# Altium integrated library TI Microcontroller MSP430 16-bit Ultra-Low Power.IntLib: 1463 symbols (part 43 of 130)
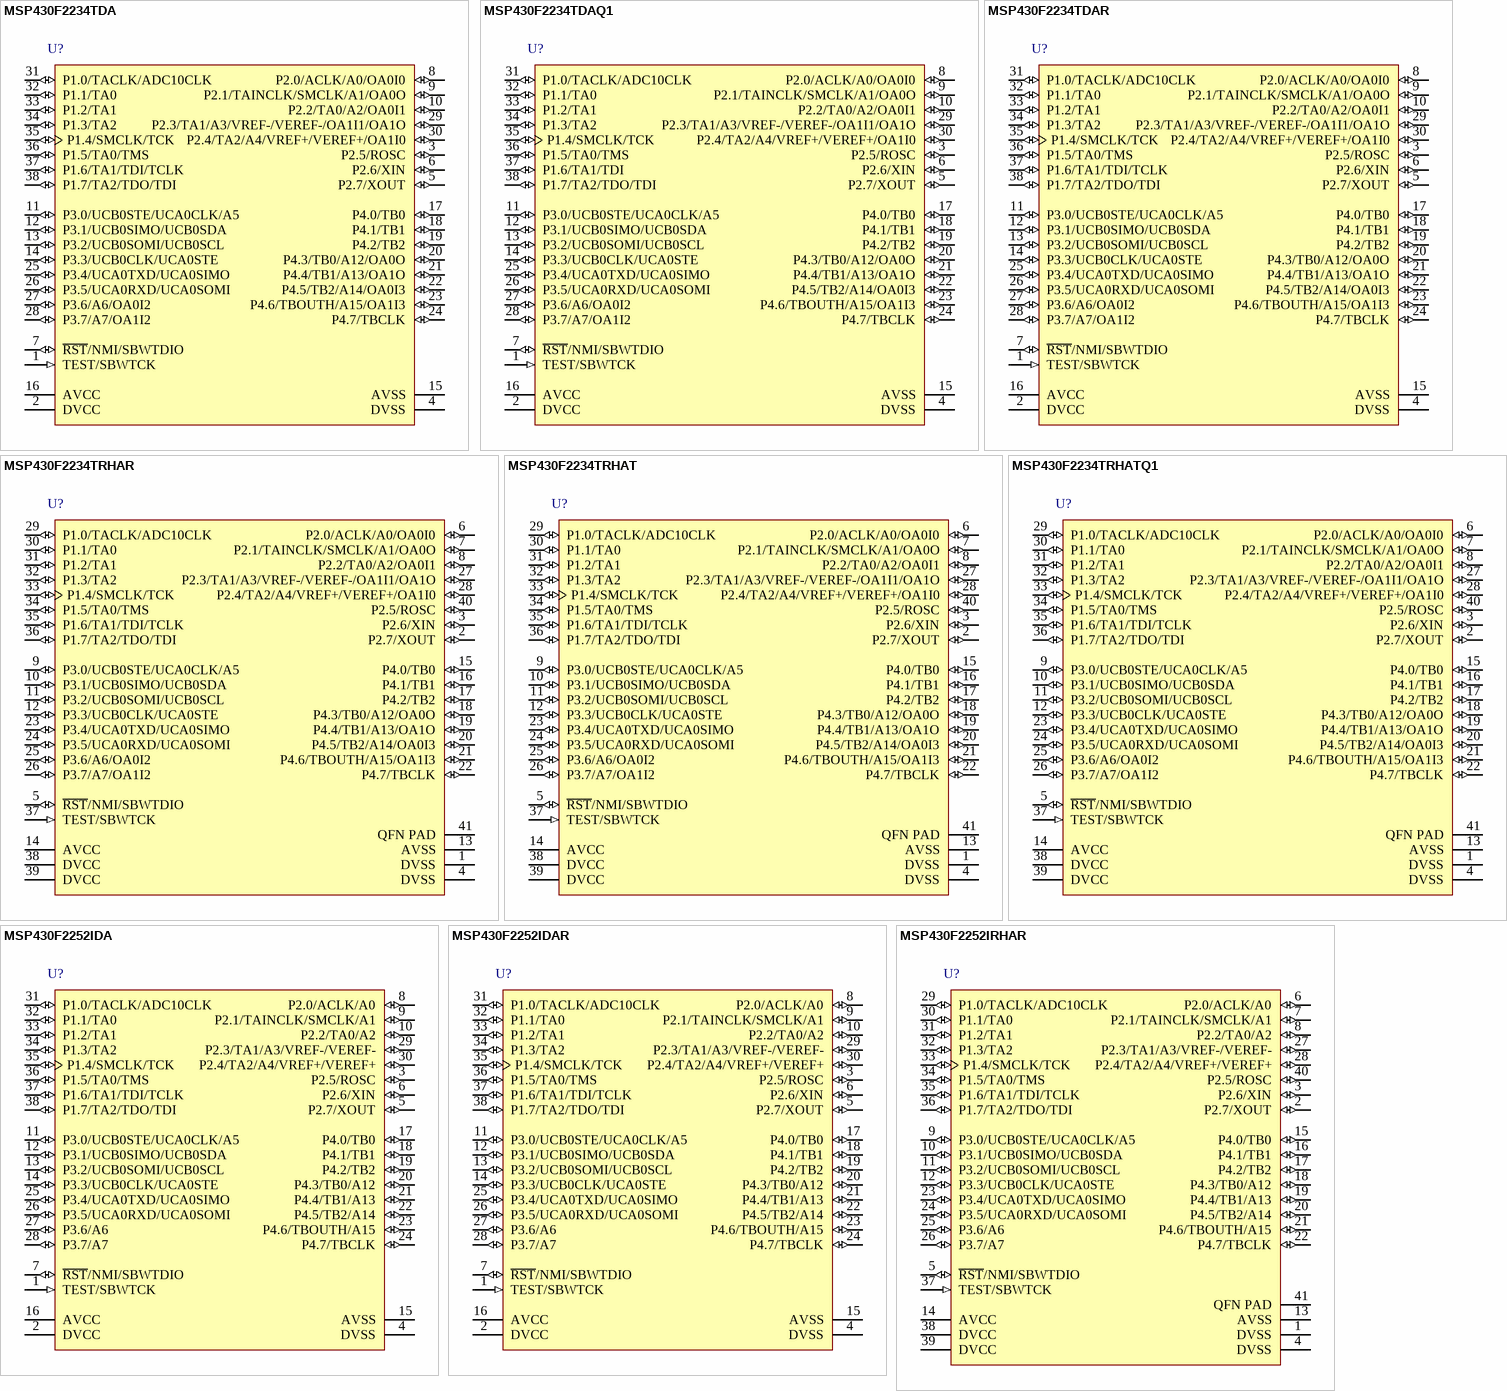
[diagram p258: symbols MSP430F2234TDA to MSP430F2252IRHAR]

## MSP430F2252IDAR
designator U?
16 MHz Mixed Signal Microcontroller with 16 KB Flash, 512 B SRAM and 32 GPIOs, -40 to 85 degC, 38-pin SOP (DA), Green (RoHS & no Sb/Br); Manufacturer: Texas Instruments; PartNumber: MSP430F2252IDAR; ADC: 10-bit SAR; ADC Channels: 12; Brown Out Reset: Yes; Flash(KB): 16; GPIO: 32; SRAM(B): 512; SubFamily: 2 Series, Extended Temp; Timers - 16-bit: 2; USCI_A (UART/LIN/IrDA/SPI): 1; DatasheetVersion: SLAS504G; PackageVersion: 4040066/F; PackageReference: DA38; PackageDescription: 38-Pin Plastic Small-Outline Package, Body 6.10 x 12.50 mm, Pitch 0.65 mm; Supplier 1: Digi-Key; Supplier Part Number 1: 296-26206-5-ND; Supplier 2: Farnell; Supplier Part Number 2: 1649421; Supplier 3: Mouser; Supplier Part Number 3: 595-MSP430F2252IDA; Eco-Plan: Green (RoHS & no Sb/Br); Frequency(MHz): 16; USCI_B (I2C & SPI): 1; Watchdog: Yes; Mounting Technology: Surface Mount; Code_JEDEC: MO-153; ComponentLink1Description: Manufacturer URL; ComponentLink1URL: http://www.ti.com/; ComponentLink2Description: Datasheet; ComponentLink2URL: http://www.ti.com/general/docs/lit/getliterature.tsp?genericPartNumber=MSP430F2252&fileType=pdf; ComponentLink3Description: Package Specification; ComponentLink3URL: http://www.ti.com/lit/ml/mtss002e/mtss002e.pdf
footprint TI-DA38_N (SOP, 38-Leads, Body 12.5x6.1mm, Pitch 0.65mm, IPC Medium Density)
pins: 1 TEST/SBWTCK (in), 2 DVCC (power) "Digital supply voltage", 3 P2.5/ROSC (io), 4 DVSS (power) "Digital ground reference", 5 P2.7/XOUT (io), 6 P2.6/XIN (io), 7 ~{RST}/NMI/SBWTDIO (io), 8 P2.0/ACLK/A0 (io), 9 P2.1/TAINCLK/SMCLK/A1 (io), 10 P2.2/TA0/A2 (io), 11 P3.0/UCB0STE/UCA0CLK/A5 (io), 12 P3.1/UCB0SIMO/UCB0SDA (io), 13 P3.2/UCB0SOMI/UCB0SCL (io), 14 P3.3/UCB0CLK/UCA0STE (io), 15 AVSS (power) "Analog ground reference", 16 AVCC (power) "Analog supply voltage", 17 P4.0/TB0 (io), 18 P4.1/TB1 (io), 19 P4.2/TB2 (io), 20 P4.3/TB0/A12 (io), 21 P4.4/TB1/A13 (io), 22 P4.5/TB2/A14 (io), 23 P4.6/TBOUTH/A15 (io), 24 P4.7/TBCLK (io), 25 P3.4/UCA0TXD/UCA0SIMO (io), 26 P3.5/UCA0RXD/UCA0SOMI (io), 27 P3.6/A6 (io), 28 P3.7/A7 (io), 29 P2.3/TA1/A3/VREF-/VEREF- (io), 30 P2.4/TA2/A4/VREF+/VEREF+ (io), 31 P1.0/TACLK/ADC10CLK (io), 32 P1.1/TA0 (io), 33 P1.2/TA1 (io), 34 P1.3/TA2 (io), 35 P1.4/SMCLK/TCK (io), 36 P1.5/TA0/TMS (io), 37 P1.6/TA1/TDI/TCLK (io), 38 P1.7/TA2/TDO/TDI (io)

## MSP430F2252IRHAR
designator U?
16 MHz Mixed Signal Microcontroller with 16 KB Flash, 512 B SRAM and 32 GPIOs, -40 to 85 degC, 40-pin QFN (RHA), Green (RoHS & no Sb/Br); Manufacturer: Texas Instruments; PartNumber: MSP430F2252IRHAR; ADC: 10-bit SAR; ADC Channels: 12; Brown Out Reset: Yes; Flash(KB): 16; GPIO: 32; SRAM(B): 512; SubFamily: 2 Series, Extended Temp; Timers - 16-bit: 2; USCI_A (UART/LIN/IrDA/SPI): 1; DatasheetVersion: SLAS504G; PackageVersion: 4204276/E; PackageReference: RHA40-4150X4150TP; PackageDescription: 40-Pin Plastic Flat Pack, Body 6 x 6 mm, Pitch 0.5 mm; Supplier 1: Digi-Key; Supplier Part Number 1: 296-21450-2-ND; Supplier 2: Digi-Key; Supplier Part Number 2: 296-21450-1-ND; Supplier 3: Digi-Key; Supplier Part Number 3: 296-21450-6-ND; Supplier 4: Newark; Supplier Part Number 4: 28M6329; Supplier 5: Mouser; Supplier Part Number 5: 595-MSP430F2252IDAR; Eco-Plan: Green (RoHS & no Sb/Br); Frequency(MHz): 16; USCI_B (I2C & SPI): 1; Watchdog: Yes; Mounting Technology: Surface Mount; Code_JEDEC: MO-220; ComponentLink1Description: Manufacturer URL; ComponentLink1URL: http://www.ti.com/; ComponentLink2Description: Datasheet; ComponentLink2URL: http://www.ti.com/general/docs/lit/getliterature.tsp?genericPartNumber=MSP430F2252&fileType=pdf; ComponentLink3Description: Package Specification; ComponentLink3URL: http://www.ti.com/litv/pdf/mpqf135c
footprint TI-RHA40-4150X4150TP_N (QFN, 40-Leads, Body 6x6mm, Pitch 0.5mm, Thermal Pad 4.15x4.15mm, IPC Medium Density)
pins: 1 DVSS (power) "Digital ground reference", 2 P2.7/XOUT (io), 3 P2.6/XIN (io), 4 DVSS (power) "Digital ground reference", 5 ~{RST}/NMI/SBWTDIO (io), 6 P2.0/ACLK/A0 (io), 7 P2.1/TAINCLK/SMCLK/A1 (io), 8 P2.2/TA0/A2 (io), 9 P3.0/UCB0STE/UCA0CLK/A5 (io), 10 P3.1/UCB0SIMO/UCB0SDA (io), 11 P3.2/UCB0SOMI/UCB0SCL (io), 12 P3.3/UCB0CLK/UCA0STE (io), 13 AVSS (power) "Analog ground reference", 14 AVCC (power) "Analog supply voltage", 15 P4.0/TB0 (io), 16 P4.1/TB1 (io), 17 P4.2/TB2 (io), 18 P4.3/TB0/A12 (io), 19 P4.4/TB1/A13 (io), 20 P4.5/TB2/A14 (io), 21 P4.6/TBOUTH/A15 (io), 22 P4.7/TBCLK (io), 23 P3.4/UCA0TXD/UCA0SIMO (io), 24 P3.5/UCA0RXD/UCA0SOMI (io), 25 P3.6/A6 (io), 26 P3.7/A7 (io), 27 P2.3/TA1/A3/VREF-/VEREF- (io), 28 P2.4/TA2/A4/VREF+/VEREF+ (io), 29 P1.0/TACLK/ADC10CLK (io), 30 P1.1/TA0 (io), 31 P1.2/TA1 (io), 32 P1.3/TA2 (io), 33 P1.4/SMCLK/TCK (io), 34 P1.5/TA0/TMS (io), 35 P1.6/TA1/TDI/TCLK (io), 36 P1.7/TA2/TDO/TDI (io), 37 TEST/SBWTCK (in), 38 DVCC (power) "Digital supply voltage", 39 DVCC (power) "Digital supply voltage", 40 P2.5/ROSC (io), 41 QFN PAD (power) "QFN package pad; connection to DVSS recommended."

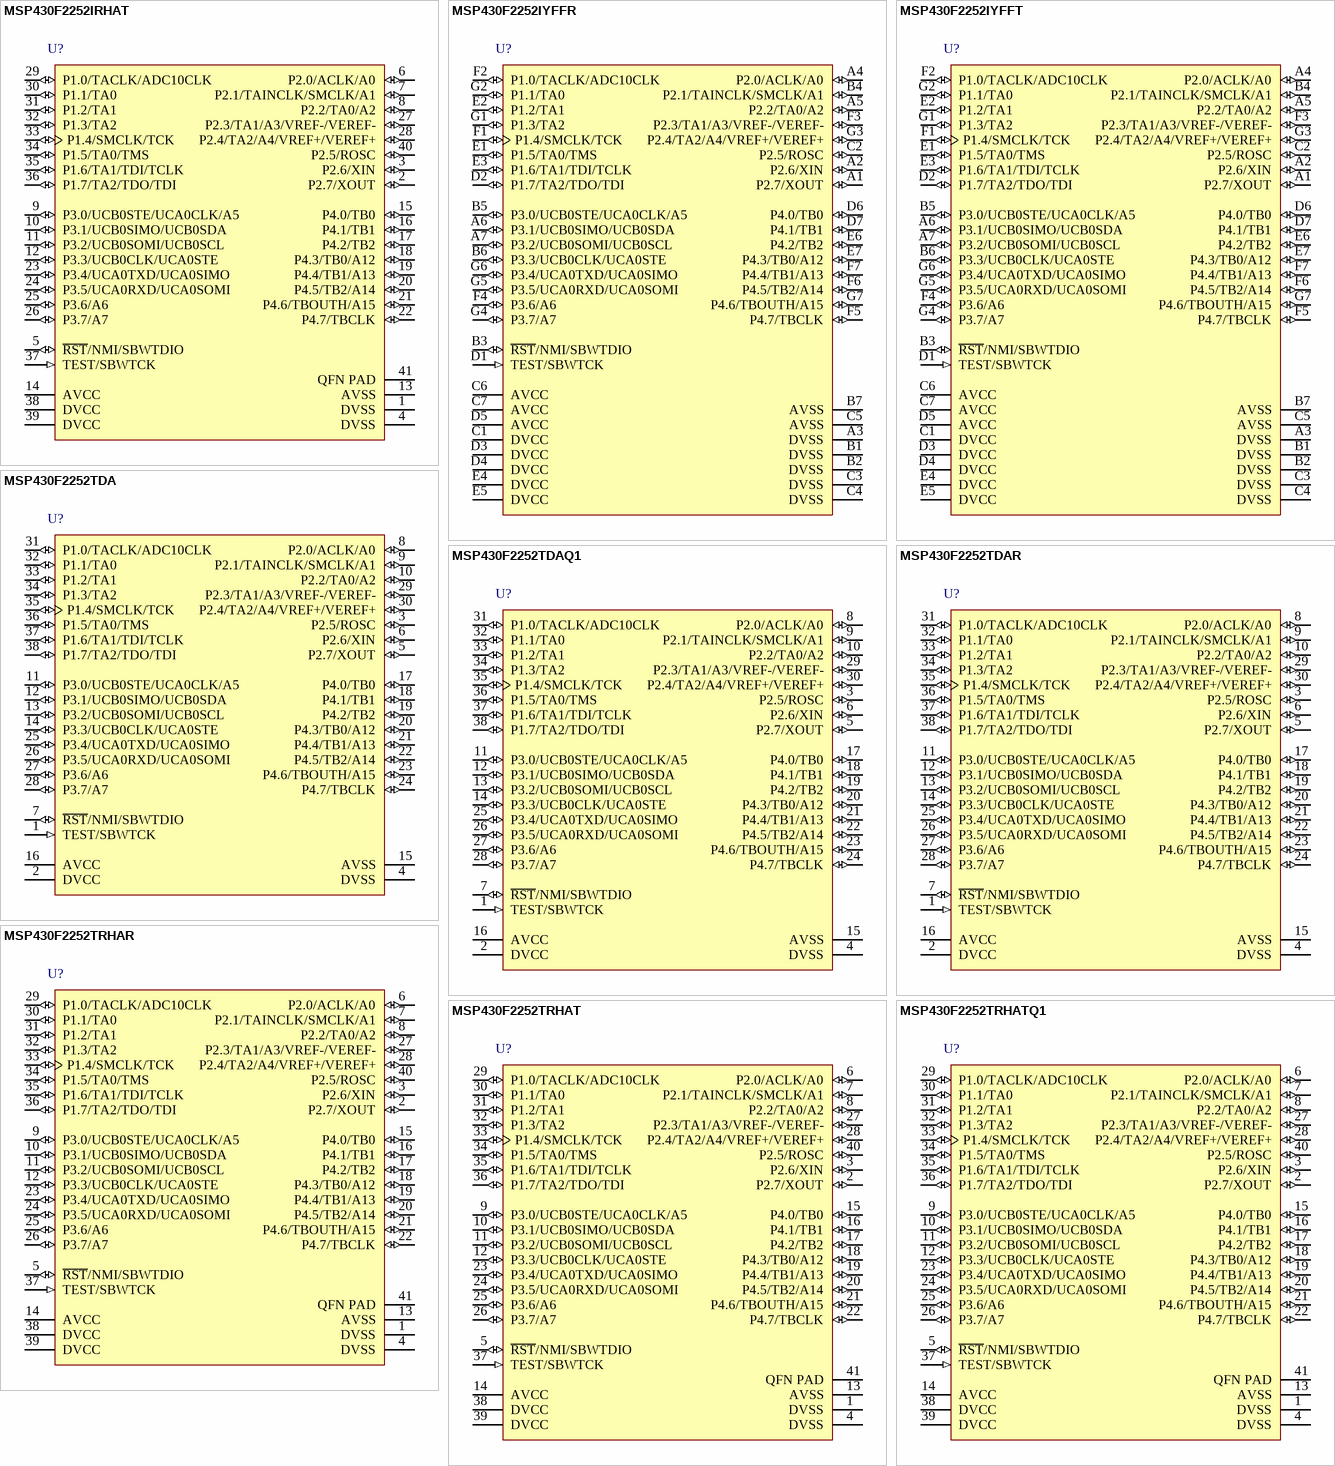
[diagram p62: symbols MSP430F2252IRHAT to MSP430F2252TRHATQ1]

## MSP430F2252IRHAT
designator U?
16 MHz Mixed Signal Microcontroller with 16 KB Flash, 512 B SRAM and 32 GPIOs, -40 to 85 degC, 40-pin QFN (RHA), Green (RoHS & no Sb/Br); Manufacturer: Texas Instruments; PartNumber: MSP430F2252IRHAT; ADC: 10-bit SAR; ADC Channels: 12; Brown Out Reset: Yes; Flash(KB): 16; GPIO: 32; SRAM(B): 512; SubFamily: 2 Series, Extended Temp; Timers - 16-bit: 2; USCI_A (UART/LIN/IrDA/SPI): 1; DatasheetVersion: SLAS504G; PackageVersion: 4204276/E; PackageReference: RHA40-4150X4150TP; PackageDescription: 40-Pin Plastic Flat Pack, Body 6 x 6 mm, Pitch 0.5 mm; Supplier 1: Digi-Key; Supplier Part Number 1: MSP430F2252IRHAR-ND; Supplier 2: Newark; Supplier Part Number 2: 28M6330; Supplier 3: Mouser; Supplier Part Number 3: 595-MSP430F2252IRHAR; Eco-Plan: Green (RoHS & no Sb/Br); Frequency(MHz): 16; USCI_B (I2C & SPI): 1; Watchdog: Yes; Mounting Technology: Surface Mount; Code_JEDEC: MO-220; ComponentLink1Description: Manufacturer URL; ComponentLink1URL: http://www.ti.com/; ComponentLink2Description: Datasheet; ComponentLink2URL: http://www.ti.com/general/docs/lit/getliterature.tsp?genericPartNumber=MSP430F2252&fileType=pdf; ComponentLink3Description: Package Specification; ComponentLink3URL: http://www.ti.com/litv/pdf/mpqf135c
footprint TI-RHA40-4150X4150TP_N (QFN, 40-Leads, Body 6x6mm, Pitch 0.5mm, Thermal Pad 4.15x4.15mm, IPC Medium Density)
pins: 1 DVSS (power) "Digital ground reference", 2 P2.7/XOUT (io), 3 P2.6/XIN (io), 4 DVSS (power) "Digital ground reference", 5 ~{RST}/NMI/SBWTDIO (io), 6 P2.0/ACLK/A0 (io), 7 P2.1/TAINCLK/SMCLK/A1 (io), 8 P2.2/TA0/A2 (io), 9 P3.0/UCB0STE/UCA0CLK/A5 (io), 10 P3.1/UCB0SIMO/UCB0SDA (io), 11 P3.2/UCB0SOMI/UCB0SCL (io), 12 P3.3/UCB0CLK/UCA0STE (io), 13 AVSS (power) "Analog ground reference", 14 AVCC (power) "Analog supply voltage", 15 P4.0/TB0 (io), 16 P4.1/TB1 (io), 17 P4.2/TB2 (io), 18 P4.3/TB0/A12 (io), 19 P4.4/TB1/A13 (io), 20 P4.5/TB2/A14 (io), 21 P4.6/TBOUTH/A15 (io), 22 P4.7/TBCLK (io), 23 P3.4/UCA0TXD/UCA0SIMO (io), 24 P3.5/UCA0RXD/UCA0SOMI (io), 25 P3.6/A6 (io), 26 P3.7/A7 (io), 27 P2.3/TA1/A3/VREF-/VEREF- (io), 28 P2.4/TA2/A4/VREF+/VEREF+ (io), 29 P1.0/TACLK/ADC10CLK (io), 30 P1.1/TA0 (io), 31 P1.2/TA1 (io), 32 P1.3/TA2 (io), 33 P1.4/SMCLK/TCK (io), 34 P1.5/TA0/TMS (io), 35 P1.6/TA1/TDI/TCLK (io), 36 P1.7/TA2/TDO/TDI (io), 37 TEST/SBWTCK (in), 38 DVCC (power) "Digital supply voltage", 39 DVCC (power) "Digital supply voltage", 40 P2.5/ROSC (io), 41 QFN PAD (power) "QFN package pad; connection to DVSS recommended."

## MSP430F2252IYFFR
designator U?
16 MHz Mixed Signal Microcontroller with 16 KB Flash, 512 B SRAM and 32 GPIOs, -40 to 85 degC, 49-Pin BGA (YFF), Green (RoHS & no Sb/Br); Manufacturer: Texas Instruments; PartNumber: MSP430F2252IYFFR; ADC: 10-bit SAR; ADC Channels: 12; Brown Out Reset: Yes; Flash(KB): 16; GPIO: 32; SRAM(B): 512; SubFamily: 2 Series, Extended Temp; Timers - 16-bit: 2; USCI_A (UART/LIN/IrDA/SPI): 1; DatasheetVersion: SLAS504G; PackageVersion: 4207625-16/AJ; PackageReference: YFF49; PackageDescription: 49-Ball Silicon Grid Array, Body 3.33 x 3.49 mm, Pitch 0.4 mm; Supplier 1: Digi-Key; Supplier Part Number 1: 296-21451-2-ND; Supplier 2: Digi-Key; Supplier Part Number 2: 296-21451-1-ND; Supplier 3: Digi-Key; Supplier Part Number 3: 296-21451-6-ND; Supplier 4: Farnell; Supplier Part Number 4: 1753294; Supplier 5: Newark; Supplier Part Number 5: 93R5550; Supplier 6: Newark; Supplier Part Number 6: 28M6331; Supplier 7: Mouser; Supplier Part Number 7: 595-MSP430F2252IRHAT; Eco-Plan: Green (RoHS & no Sb/Br); Frequency(MHz): 16; USCI_B (I2C & SPI): 1; Watchdog: Yes; Mounting Technology: Surface Mount; ComponentLink1Description: Manufacturer URL; ComponentLink1URL: http://www.ti.com/; ComponentLink2Description: Datasheet; ComponentLink2URL: http://www.ti.com/general/docs/lit/getliterature.tsp?genericPartNumber=MSP430F2252&fileType=pdf; ComponentLink3Description: Package Specification; ComponentLink3URL: http://www.ti.com/lit/ds/symlink/msp430f2232.pdf
footprint TI-YFF49-3330X3490DE (BGA, 49-Balls, Body 3.49x3.33mm, Pitch 0.4mm)
pins: A1 P2.7/XOUT (io), A2 P2.6/XIN (io), A3 DVSS (power) "Digital ground reference", A4 P2.0/ACLK/A0 (io), A5 P2.2/TA0/A2 (io), A6 P3.1/UCB0SIMO/UCB0SDA (io), A7 P3.2/UCB0SOMI/UCB0SCL (io), B1 DVSS (power) "Digital ground reference", B2 DVSS (power) "Digital ground reference", B3 ~{RST}/NMI/SBWTDIO (io), B4 P2.1/TAINCLK/SMCLK/A1 (io), B5 P3.0/UCB0STE/UCA0CLK/A5 (io), B6 P3.3/UCB0CLK/UCA0STE (io), B7 AVSS (power) "Analog ground reference", C1 DVCC (power) "Digital supply voltage", C2 P2.5/ROSC (io), C3 DVSS (power) "Digital ground reference", C4 DVSS (power) "Digital ground reference", C5 AVSS (power) "Analog ground reference", C6 AVCC (power) "Analog supply voltage", C7 AVCC (power) "Analog supply voltage", D1 TEST/SBWTCK (in), D2 P1.7/TA2/TDO/TDI (io), D3 DVCC (power) "Digital supply voltage", D4 DVCC (power) "Digital supply voltage", D5 AVCC (power) "Analog supply voltage", D6 P4.0/TB0 (io), D7 P4.1/TB1 (io), E1 P1.5/TA0/TMS (io), E2 P1.2/TA1 (io), E3 P1.6/TA1/TDI/TCLK (io), E4 DVCC (power) "Digital supply voltage", E5 DVCC (power) "Digital supply voltage", E6 P4.2/TB2 (io), E7 P4.3/TB0/A12 (io), F1 P1.4/SMCLK/TCK (io), F2 P1.0/TACLK/ADC10CLK (io), F3 P2.3/TA1/A3/VREF-/VEREF- (io), F4 P3.6/A6 (io), F5 P4.7/TBCLK (io), F6 P4.5/TB2/A14 (io), F7 P4.4/TB1/A13 (io), G1 P1.3/TA2 (io), G2 P1.1/TA0 (io), G3 P2.4/TA2/A4/VREF+/VEREF+ (io), G4 P3.7/A7 (io), G5 P3.5/UCA0RXD/UCA0SOMI (io), G6 P3.4/UCA0TXD/UCA0SIMO (io), G7 P4.6/TBOUTH/A15 (io)

## MSP430F2252IYFFT
designator U?
16 MHz Mixed Signal Microcontroller with 16 KB Flash, 512 B SRAM and 32 GPIOs, -40 to 85 degC, 49-pin BGA (YFF), Green (RoHS & no Sb/Br); Manufacturer: Texas Instruments; PartNumber: MSP430F2252IYFFT; ADC: 10-bit SAR; ADC Channels: 12; Brown Out Reset: Yes; Flash(KB): 16; GPIO: 32; SRAM(B): 512; SubFamily: 2 Series, Extended Temp; Timers - 16-bit: 2; USCI_A (UART/LIN/IrDA/SPI): 1; DatasheetVersion: SLAS504G; PackageVersion: 4207625-16/AJ; PackageReference: YFF49; PackageDescription: 49-Ball Silicon Grid Array, Body 3.33 x 3.49 mm, Pitch 0.4 mm; Supplier 1: Digi-Key; Supplier Part Number 1: 296-28981-2-ND; Supplier 2: Digi-Key; Supplier Part Number 2: 296-28981-1-ND; Supplier 3: Digi-Key; Supplier Part Number 3: 296-28981-6-ND; Supplier 4: Newark; Supplier Part Number 4: 94T1368; Supplier 5: Mouser; Supplier Part Number 5: 595-MSP430F2252IYFFR; Eco-Plan: Green (RoHS & no Sb/Br); Frequency(MHz): 16; USCI_B (I2C & SPI): 1; Watchdog: Yes; Mounting Technology: Surface Mount; ComponentLink1Description: Manufacturer URL; ComponentLink1URL: http://www.ti.com/; ComponentLink2Description: Datasheet; ComponentLink2URL: http://www.ti.com/general/docs/lit/getliterature.tsp?genericPartNumber=MSP430F2252&fileType=pdf; ComponentLink3Description: Package Specification; ComponentLink3URL: http://www.ti.com/lit/ds/symlink/msp430f2232.pdf
footprint TI-YFF49-3330X3490DE (BGA, 49-Balls, Body 3.49x3.33mm, Pitch 0.4mm)
pins: A1 P2.7/XOUT (io), A2 P2.6/XIN (io), A3 DVSS (power) "Digital ground reference", A4 P2.0/ACLK/A0 (io), A5 P2.2/TA0/A2 (io), A6 P3.1/UCB0SIMO/UCB0SDA (io), A7 P3.2/UCB0SOMI/UCB0SCL (io), B1 DVSS (power) "Digital ground reference", B2 DVSS (power) "Digital ground reference", B3 ~{RST}/NMI/SBWTDIO (io), B4 P2.1/TAINCLK/SMCLK/A1 (io), B5 P3.0/UCB0STE/UCA0CLK/A5 (io), B6 P3.3/UCB0CLK/UCA0STE (io), B7 AVSS (power) "Analog ground reference", C1 DVCC (power) "Digital supply voltage", C2 P2.5/ROSC (io), C3 DVSS (power) "Digital ground reference", C4 DVSS (power) "Digital ground reference", C5 AVSS (power) "Analog ground reference", C6 AVCC (power) "Analog supply voltage", C7 AVCC (power) "Analog supply voltage", D1 TEST/SBWTCK (in), D2 P1.7/TA2/TDO/TDI (io), D3 DVCC (power) "Digital supply voltage", D4 DVCC (power) "Digital supply voltage", D5 AVCC (power) "Analog supply voltage", D6 P4.0/TB0 (io), D7 P4.1/TB1 (io), E1 P1.5/TA0/TMS (io), E2 P1.2/TA1 (io), E3 P1.6/TA1/TDI/TCLK (io), E4 DVCC (power) "Digital supply voltage", E5 DVCC (power) "Digital supply voltage", E6 P4.2/TB2 (io), E7 P4.3/TB0/A12 (io), F1 P1.4/SMCLK/TCK (io), F2 P1.0/TACLK/ADC10CLK (io), F3 P2.3/TA1/A3/VREF-/VEREF- (io), F4 P3.6/A6 (io), F5 P4.7/TBCLK (io), F6 P4.5/TB2/A14 (io), F7 P4.4/TB1/A13 (io), G1 P1.3/TA2 (io), G2 P1.1/TA0 (io), G3 P2.4/TA2/A4/VREF+/VEREF+ (io), G4 P3.7/A7 (io), G5 P3.5/UCA0RXD/UCA0SOMI (io), G6 P3.4/UCA0TXD/UCA0SIMO (io), G7 P4.6/TBOUTH/A15 (io)

## MSP430F2252TDA
designator U?
16 MHz Mixed Signal Microcontroller with 16 KB Flash, 512 B SRAM and 32 GPIOs, -40 to 105 degC, 38-pin SOP (DA), Green (RoHS & no Sb/Br); Manufacturer: Texas Instruments; PartNumber: MSP430F2252TDA; ADC: 10-bit SAR; ADC Channels: 12; Brown Out Reset: Yes; Flash(KB): 16; GPIO: 32; SRAM(B): 512; SubFamily: 2 Series, Extended Temp; Timers - 16-bit: 2; USCI_A (UART/LIN/IrDA/SPI): 1; DatasheetVersion: SLAS504G; PackageVersion: 4040066/F; PackageReference: DA38; PackageDescription: 38-Pin Plastic Small-Outline Package, Body 6.10 x 12.50 mm, Pitch 0.65 mm; Supplier 1: Newark; Supplier Part Number 1: 47W6739; Supplier 2: Mouser; Supplier Part Number 2: 595-MSP430F2252IYFFT; Eco-Plan: Green (RoHS & no Sb/Br); Frequency(MHz): 16; USCI_B (I2C & SPI): 1; Watchdog: Yes; Mounting Technology: Surface Mount; Code_JEDEC: MO-153; ComponentLink1Description: Manufacturer URL; ComponentLink1URL: http://www.ti.com/; ComponentLink2Description: Datasheet; ComponentLink2URL: http://www.ti.com/general/docs/lit/getliterature.tsp?genericPartNumber=MSP430F2252&fileType=pdf; ComponentLink3Description: Package Specification; ComponentLink3URL: http://www.ti.com/lit/ml/mtss002e/mtss002e.pdf
footprint TI-DA38_N (SOP, 38-Leads, Body 12.5x6.1mm, Pitch 0.65mm, IPC Medium Density)
pins: 1 TEST/SBWTCK (in), 2 DVCC (power) "Digital supply voltage", 3 P2.5/ROSC (io), 4 DVSS (power) "Digital ground reference", 5 P2.7/XOUT (io), 6 P2.6/XIN (io), 7 ~{RST}/NMI/SBWTDIO (io), 8 P2.0/ACLK/A0 (io), 9 P2.1/TAINCLK/SMCLK/A1 (io), 10 P2.2/TA0/A2 (io), 11 P3.0/UCB0STE/UCA0CLK/A5 (io), 12 P3.1/UCB0SIMO/UCB0SDA (io), 13 P3.2/UCB0SOMI/UCB0SCL (io), 14 P3.3/UCB0CLK/UCA0STE (io), 15 AVSS (power) "Analog ground reference", 16 AVCC (power) "Analog supply voltage", 17 P4.0/TB0 (io), 18 P4.1/TB1 (io), 19 P4.2/TB2 (io), 20 P4.3/TB0/A12 (io), 21 P4.4/TB1/A13 (io), 22 P4.5/TB2/A14 (io), 23 P4.6/TBOUTH/A15 (io), 24 P4.7/TBCLK (io), 25 P3.4/UCA0TXD/UCA0SIMO (io), 26 P3.5/UCA0RXD/UCA0SOMI (io), 27 P3.6/A6 (io), 28 P3.7/A7 (io), 29 P2.3/TA1/A3/VREF-/VEREF- (io), 30 P2.4/TA2/A4/VREF+/VEREF+ (io), 31 P1.0/TACLK/ADC10CLK (io), 32 P1.1/TA0 (io), 33 P1.2/TA1 (io), 34 P1.3/TA2 (io), 35 P1.4/SMCLK/TCK (io), 36 P1.5/TA0/TMS (io), 37 P1.6/TA1/TDI/TCLK (io), 38 P1.7/TA2/TDO/TDI (io)

## MSP430F2252TDAQ1
designator U?
16 MHz Mixed Signal Microcontroller with 16 KB Flash, 512 B SRAM and 32 GPIOs, -40 to 105 degC, 38-pin SOP (DA); Manufacturer: Texas Instruments; PartNumber: MSP430F2252TDAQ1; ADC: 10-bit SAR; ADC Channels: 12; Brown Out Reset: Yes; Eco-Plan: TBD; Flash(KB): 16; GPIO: 32; SRAM(B): 512; SubFamily: Automotive, Extended Temp; Timers - 16-bit: 2; USCI_A (UART/LIN/IrDA/SPI): 1; DatasheetVersion: SLAS770; PackageVersion: 4040066/F; PackageReference: DA38; PackageDescription: 38-Pin Plastic Small-Outline Package, Body 6.10 x 12.50 mm, Pitch 0.65 mm; Supplier 1: Digi-Key; Supplier Part Number 1: 296-29604-5-ND; Supplier 2: Farnell; Supplier Part Number 2: 1555266; Supplier 3: Newark; Supplier Part Number 3: 94M8451; Supplier 4: Mouser; Supplier Part Number 4: 595-MSP430F2252TDA; Frequency(MHz): 16; Temp Sensor: Yes; USCI_B (I2C & SPI): 1; Watchdog: Yes; Mounting Technology: Surface Mount; Code_JEDEC: MO-153; ComponentLink1Description: Manufacturer URL; ComponentLink1URL: http://www.ti.com/; ComponentLink2Description: Datasheet; ComponentLink2URL: http://www.ti.com/general/docs/lit/getliterature.tsp?genericPartNumber=MSP430F2252-Q1&fileType=pdf; ComponentLink3Description: Package Specification; ComponentLink3URL: http://www.ti.com/lit/ml/mtss002e/mtss002e.pdf
footprint TI-DA38_N (SOP, 38-Leads, Body 12.5x6.1mm, Pitch 0.65mm, IPC Medium Density)
pins: 1 TEST/SBWTCK (in), 2 DVCC (power) "Digital supply voltage", 3 P2.5/ROSC (io), 4 DVSS (power) "Digital ground reference", 5 P2.7/XOUT (io), 6 P2.6/XIN (io), 7 ~{RST}/NMI/SBWTDIO (io), 8 P2.0/ACLK/A0 (io), 9 P2.1/TAINCLK/SMCLK/A1 (io), 10 P2.2/TA0/A2 (io), 11 P3.0/UCB0STE/UCA0CLK/A5 (io), 12 P3.1/UCB0SIMO/UCB0SDA (io), 13 P3.2/UCB0SOMI/UCB0SCL (io), 14 P3.3/UCB0CLK/UCA0STE (io), 15 AVSS (power) "Analog supply voltage", 16 AVCC (power) "Analog supply voltage", 17 P4.0/TB0 (io), 18 P4.1/TB1 (io), 19 P4.2/TB2 (io), 20 P4.3/TB0/A12 (io), 21 P4.4/TB1/A13 (io), 22 P4.5/TB2/A14 (io), 23 P4.6/TBOUTH/A15 (io), 24 P4.7/TBCLK (io), 25 P3.4/UCA0TXD/UCA0SIMO (io), 26 P3.5/UCA0RXD/UCA0SOMI (io), 27 P3.6/A6 (io), 28 P3.7/A7 (io), 29 P2.3/TA1/A3/VREF-/VEREF- (io), 30 P2.4/TA2/A4/VREF+/VEREF+ (io), 31 P1.0/TACLK/ADC10CLK (io), 32 P1.1/TA0 (io), 33 P1.2/TA1 (io), 34 P1.3/TA2 (io), 35 P1.4/SMCLK/TCK (io), 36 P1.5/TA0/TMS (io), 37 P1.6/TA1/TDI/TCLK (io), 38 P1.7/TA2/TDO/TDI (io)

## MSP430F2252TDAR
designator U?
16 MHz Mixed Signal Microcontroller with 16 KB Flash, 512 B SRAM and 32 GPIOs, -40 to 105 degC, 38-pin SOP (DA), Green (RoHS & no Sb/Br); Manufacturer: Texas Instruments; PartNumber: MSP430F2252TDAR; ADC: 10-bit SAR; ADC Channels: 12; Brown Out Reset: Yes; Flash(KB): 16; GPIO: 32; SRAM(B): 512; SubFamily: 2 Series, Extended Temp; Timers - 16-bit: 2; USCI_A (UART/LIN/IrDA/SPI): 1; DatasheetVersion: SLAS504G; PackageVersion: 4040066/F; PackageReference: DA38; PackageDescription: 38-Pin Plastic Small-Outline Package, Body 6.10 x 12.50 mm, Pitch 0.65 mm; Supplier 1: Mouser; Supplier Part Number 1: N/A; Eco-Plan: Green (RoHS & no Sb/Br); Frequency(MHz): 16; USCI_B (I2C & SPI): 1; Watchdog: Yes; Mounting Technology: Surface Mount; Code_JEDEC: MO-153; ComponentLink1Description: Manufacturer URL; ComponentLink1URL: http://www.ti.com/; ComponentLink2Description: Datasheet; ComponentLink2URL: http://www.ti.com/general/docs/lit/getliterature.tsp?genericPartNumber=MSP430F2252&fileType=pdf; ComponentLink3Description: Package Specification; ComponentLink3URL: http://www.ti.com/lit/ml/mtss002e/mtss002e.pdf
footprint TI-DA38_N (SOP, 38-Leads, Body 12.5x6.1mm, Pitch 0.65mm, IPC Medium Density)
pins: 1 TEST/SBWTCK (in), 2 DVCC (power) "Digital supply voltage", 3 P2.5/ROSC (io), 4 DVSS (power) "Digital ground reference", 5 P2.7/XOUT (io), 6 P2.6/XIN (io), 7 ~{RST}/NMI/SBWTDIO (io), 8 P2.0/ACLK/A0 (io), 9 P2.1/TAINCLK/SMCLK/A1 (io), 10 P2.2/TA0/A2 (io), 11 P3.0/UCB0STE/UCA0CLK/A5 (io), 12 P3.1/UCB0SIMO/UCB0SDA (io), 13 P3.2/UCB0SOMI/UCB0SCL (io), 14 P3.3/UCB0CLK/UCA0STE (io), 15 AVSS (power) "Analog ground reference", 16 AVCC (power) "Analog supply voltage", 17 P4.0/TB0 (io), 18 P4.1/TB1 (io), 19 P4.2/TB2 (io), 20 P4.3/TB0/A12 (io), 21 P4.4/TB1/A13 (io), 22 P4.5/TB2/A14 (io), 23 P4.6/TBOUTH/A15 (io), 24 P4.7/TBCLK (io), 25 P3.4/UCA0TXD/UCA0SIMO (io), 26 P3.5/UCA0RXD/UCA0SOMI (io), 27 P3.6/A6 (io), 28 P3.7/A7 (io), 29 P2.3/TA1/A3/VREF-/VEREF- (io), 30 P2.4/TA2/A4/VREF+/VEREF+ (io), 31 P1.0/TACLK/ADC10CLK (io), 32 P1.1/TA0 (io), 33 P1.2/TA1 (io), 34 P1.3/TA2 (io), 35 P1.4/SMCLK/TCK (io), 36 P1.5/TA0/TMS (io), 37 P1.6/TA1/TDI/TCLK (io), 38 P1.7/TA2/TDO/TDI (io)

## MSP430F2252TRHAR
designator U?
16 MHz Mixed Signal Microcontroller with 16 KB Flash, 512 B SRAM and 32 GPIOs, -40 to 105 degC, 40-pin QFN (RHA), Green (RoHS & no Sb/Br); Manufacturer: Texas Instruments; PartNumber: MSP430F2252TRHAR; ADC: 10-bit SAR; ADC Channels: 12; Brown Out Reset: Yes; Flash(KB): 16; GPIO: 32; SRAM(B): 512; SubFamily: 2 Series, Extended Temp; Timers - 16-bit: 2; USCI_A (UART/LIN/IrDA/SPI): 1; DatasheetVersion: SLAS504G; PackageVersion: 4204276/E; PackageReference: RHA40-4150X4150TP; PackageDescription: 40-Pin Plastic Flat Pack, Body 6 x 6 mm, Pitch 0.5 mm; Supplier 1: Digi-Key; Supplier Part Number 1: MSP430F2252TDAR-ND; Supplier 2: Newark; Supplier Part Number 2: 28M6333; Supplier 3: Mouser; Supplier Part Number 3: 595-MSP430F2252TDAR; Eco-Plan: Green (RoHS & no Sb/Br); Frequency(MHz): 16; USCI_B (I2C & SPI): 1; Watchdog: Yes; Mounting Technology: Surface Mount; Code_JEDEC: MO-220; ComponentLink1Description: Manufacturer URL; ComponentLink1URL: http://www.ti.com/; ComponentLink2Description: Datasheet; ComponentLink2URL: http://www.ti.com/general/docs/lit/getliterature.tsp?genericPartNumber=MSP430F2252&fileType=pdf; ComponentLink3Description: Package Specification; ComponentLink3URL: http://www.ti.com/litv/pdf/mpqf135c
footprint TI-RHA40-4150X4150TP_N (QFN, 40-Leads, Body 6x6mm, Pitch 0.5mm, Thermal Pad 4.15x4.15mm, IPC Medium Density)
pins: 1 DVSS (power) "Digital ground reference", 2 P2.7/XOUT (io), 3 P2.6/XIN (io), 4 DVSS (power) "Digital ground reference", 5 ~{RST}/NMI/SBWTDIO (io), 6 P2.0/ACLK/A0 (io), 7 P2.1/TAINCLK/SMCLK/A1 (io), 8 P2.2/TA0/A2 (io), 9 P3.0/UCB0STE/UCA0CLK/A5 (io), 10 P3.1/UCB0SIMO/UCB0SDA (io), 11 P3.2/UCB0SOMI/UCB0SCL (io), 12 P3.3/UCB0CLK/UCA0STE (io), 13 AVSS (power) "Analog ground reference", 14 AVCC (power) "Analog supply voltage", 15 P4.0/TB0 (io), 16 P4.1/TB1 (io), 17 P4.2/TB2 (io), 18 P4.3/TB0/A12 (io), 19 P4.4/TB1/A13 (io), 20 P4.5/TB2/A14 (io), 21 P4.6/TBOUTH/A15 (io), 22 P4.7/TBCLK (io), 23 P3.4/UCA0TXD/UCA0SIMO (io), 24 P3.5/UCA0RXD/UCA0SOMI (io), 25 P3.6/A6 (io), 26 P3.7/A7 (io), 27 P2.3/TA1/A3/VREF-/VEREF- (io), 28 P2.4/TA2/A4/VREF+/VEREF+ (io), 29 P1.0/TACLK/ADC10CLK (io), 30 P1.1/TA0 (io), 31 P1.2/TA1 (io), 32 P1.3/TA2 (io), 33 P1.4/SMCLK/TCK (io), 34 P1.5/TA0/TMS (io), 35 P1.6/TA1/TDI/TCLK (io), 36 P1.7/TA2/TDO/TDI (io), 37 TEST/SBWTCK (in), 38 DVCC (power) "Digital supply voltage", 39 DVCC (power) "Digital supply voltage", 40 P2.5/ROSC (io), 41 QFN PAD (power) "QFN package pad; connection to DVSS recommended."

## MSP430F2252TRHAT
designator U?
16 MHz Mixed Signal Microcontroller with 16 KB Flash, 512 B SRAM and 32 GPIOs, -40 to 105 degC, 40-pin QFN (RHA), Green (RoHS & no Sb/Br); Manufacturer: Texas Instruments; PartNumber: MSP430F2252TRHAT; ADC: 10-bit SAR; ADC Channels: 12; Brown Out Reset: Yes; Flash(KB): 16; GPIO: 32; SRAM(B): 512; SubFamily: 2 Series, Extended Temp; Timers - 16-bit: 2; USCI_A (UART/LIN/IrDA/SPI): 1; DatasheetVersion: SLAS504G; PackageVersion: 4204276/E; PackageReference: RHA40-4150X4150TP; PackageDescription: 40-Pin Plastic Flat Pack, Body 6 x 6 mm, Pitch 0.5 mm; Supplier 1: Digi-Key; Supplier Part Number 1: MSP430F2252TRHAR-ND; Supplier 2: Newark; Supplier Part Number 2: 36M8820; Supplier 3: Mouser; Supplier Part Number 3: 595-MSP430F2252TRHAR; Eco-Plan: Green (RoHS & no Sb/Br); Frequency(MHz): 16; USCI_B (I2C & SPI): 1; Watchdog: Yes; Mounting Technology: Surface Mount; Code_JEDEC: MO-220; ComponentLink1Description: Manufacturer URL; ComponentLink1URL: http://www.ti.com/; ComponentLink2Description: Datasheet; ComponentLink2URL: http://www.ti.com/general/docs/lit/getliterature.tsp?genericPartNumber=MSP430F2252&fileType=pdf; ComponentLink3Description: Package Specification; ComponentLink3URL: http://www.ti.com/litv/pdf/mpqf135c
footprint TI-RHA40-4150X4150TP_N (QFN, 40-Leads, Body 6x6mm, Pitch 0.5mm, Thermal Pad 4.15x4.15mm, IPC Medium Density)
pins: 1 DVSS (power) "Digital ground reference", 2 P2.7/XOUT (io), 3 P2.6/XIN (io), 4 DVSS (power) "Digital ground reference", 5 ~{RST}/NMI/SBWTDIO (io), 6 P2.0/ACLK/A0 (io), 7 P2.1/TAINCLK/SMCLK/A1 (io), 8 P2.2/TA0/A2 (io), 9 P3.0/UCB0STE/UCA0CLK/A5 (io), 10 P3.1/UCB0SIMO/UCB0SDA (io), 11 P3.2/UCB0SOMI/UCB0SCL (io), 12 P3.3/UCB0CLK/UCA0STE (io), 13 AVSS (power) "Analog ground reference", 14 AVCC (power) "Analog supply voltage", 15 P4.0/TB0 (io), 16 P4.1/TB1 (io), 17 P4.2/TB2 (io), 18 P4.3/TB0/A12 (io), 19 P4.4/TB1/A13 (io), 20 P4.5/TB2/A14 (io), 21 P4.6/TBOUTH/A15 (io), 22 P4.7/TBCLK (io), 23 P3.4/UCA0TXD/UCA0SIMO (io), 24 P3.5/UCA0RXD/UCA0SOMI (io), 25 P3.6/A6 (io), 26 P3.7/A7 (io), 27 P2.3/TA1/A3/VREF-/VEREF- (io), 28 P2.4/TA2/A4/VREF+/VEREF+ (io), 29 P1.0/TACLK/ADC10CLK (io), 30 P1.1/TA0 (io), 31 P1.2/TA1 (io), 32 P1.3/TA2 (io), 33 P1.4/SMCLK/TCK (io), 34 P1.5/TA0/TMS (io), 35 P1.6/TA1/TDI/TCLK (io), 36 P1.7/TA2/TDO/TDI (io), 37 TEST/SBWTCK (in), 38 DVCC (power) "Digital supply voltage", 39 DVCC (power) "Digital supply voltage", 40 P2.5/ROSC (io), 41 QFN PAD (power) "QFN package pad; connection to DVSS recommended."

## MSP430F2252TRHATQ1
designator U?
16 MHz Mixed Signal Microcontroller with 16 KB Flash, 512 B SRAM and 32 GPIOs, -40 to 105 degC, 40-pin QFN (RHA); Manufacturer: Texas Instruments; PartNumber: MSP430F2252TRHATQ1; ADC: 10-bit SAR; ADC Channels: 12; Brown Out Reset: Yes; Eco-Plan: TBD; Flash(KB): 16; GPIO: 32; SRAM(B): 512; SubFamily: Automotive, Extended Temp; Timers - 16-bit: 2; USCI_A (UART/LIN/IrDA/SPI): 1; DatasheetVersion: SLAS770; PackageVersion: 4204276/E; PackageReference: RHA40-4150X4150TP; PackageDescription: 40-Pin Plastic Flat Pack, Body 6 x 6 mm, Pitch 0.5 mm; Supplier 1: Digi-Key; Supplier Part Number 1: MSP430F2252TRHAT-ND; Supplier 2: Farnell; Supplier Part Number 2: 1555267; Supplier 3: Newark; Supplier Part Number 3: 94M8452; Supplier 4: Newark; Supplier Part Number 4: 36M8821; Supplier 5: Mouser; Supplier Part Number 5: 595-MSP430F2252TRHAT; Frequency(MHz): 16; Temp Sensor: Yes; USCI_B (I2C & SPI): 1; Watchdog: Yes; Mounting Technology: Surface Mount; Code_JEDEC: MO-220; ComponentLink1Description: Manufacturer URL; ComponentLink1URL: http://www.ti.com/; ComponentLink2Description: Datasheet; ComponentLink2URL: http://www.ti.com/general/docs/lit/getliterature.tsp?genericPartNumber=MSP430F2252-Q1&fileType=pdf; ComponentLink3Description: Package Specification; ComponentLink3URL: http://www.ti.com/litv/pdf/mpqf135c
footprint TI-RHA40-4150X4150TP_N (QFN, 40-Leads, Body 6x6mm, Pitch 0.5mm, Thermal Pad 4.15x4.15mm, IPC Medium Density)
pins: 1 DVSS (power) "Digital ground reference", 2 P2.7/XOUT (io), 3 P2.6/XIN (io), 4 DVSS (power) "Digital ground reference", 5 ~{RST}/NMI/SBWTDIO (io), 6 P2.0/ACLK/A0 (io), 7 P2.1/TAINCLK/SMCLK/A1 (io), 8 P2.2/TA0/A2 (io), 9 P3.0/UCB0STE/UCA0CLK/A5 (io), 10 P3.1/UCB0SIMO/UCB0SDA (io), 11 P3.2/UCB0SOMI/UCB0SCL (io), 12 P3.3/UCB0CLK/UCA0STE (io), 13 AVSS (power) "Analog ground reference", 14 AVCC (power) "Analog supply voltage", 15 P4.0/TB0 (io), 16 P4.1/TB1 (io), 17 P4.2/TB2 (io), 18 P4.3/TB0/A12 (io), 19 P4.4/TB1/A13 (io), 20 P4.5/TB2/A14 (io), 21 P4.6/TBOUTH/A15 (io), 22 P4.7/TBCLK (io), 23 P3.4/UCA0TXD/UCA0SIMO (io), 24 P3.5/UCA0RXD/UCA0SOMI (io), 25 P3.6/A6 (io), 26 P3.7/A7 (io), 27 P2.3/TA1/A3/VREF-/VEREF- (io), 28 P2.4/TA2/A4/VREF+/VEREF+ (io), 29 P1.0/TACLK/ADC10CLK (io), 30 P1.1/TA0 (io), 31 P1.2/TA1 (io), 32 P1.3/TA2 (io), 33 P1.4/SMCLK/TCK (io), 34 P1.5/TA0/TMS (io), 35 P1.6/TA1/TDI/TCLK (io), 36 P1.7/TA2/TDO/TDI (io), 37 TEST/SBWTCK (in), 38 DVCC (power) "Digital supply voltage", 39 DVCC (power) "Digital supply voltage", 40 P2.5/ROSC (io), 41 QFN PAD (power) "QFN package pad; connection to DVSS recommended"

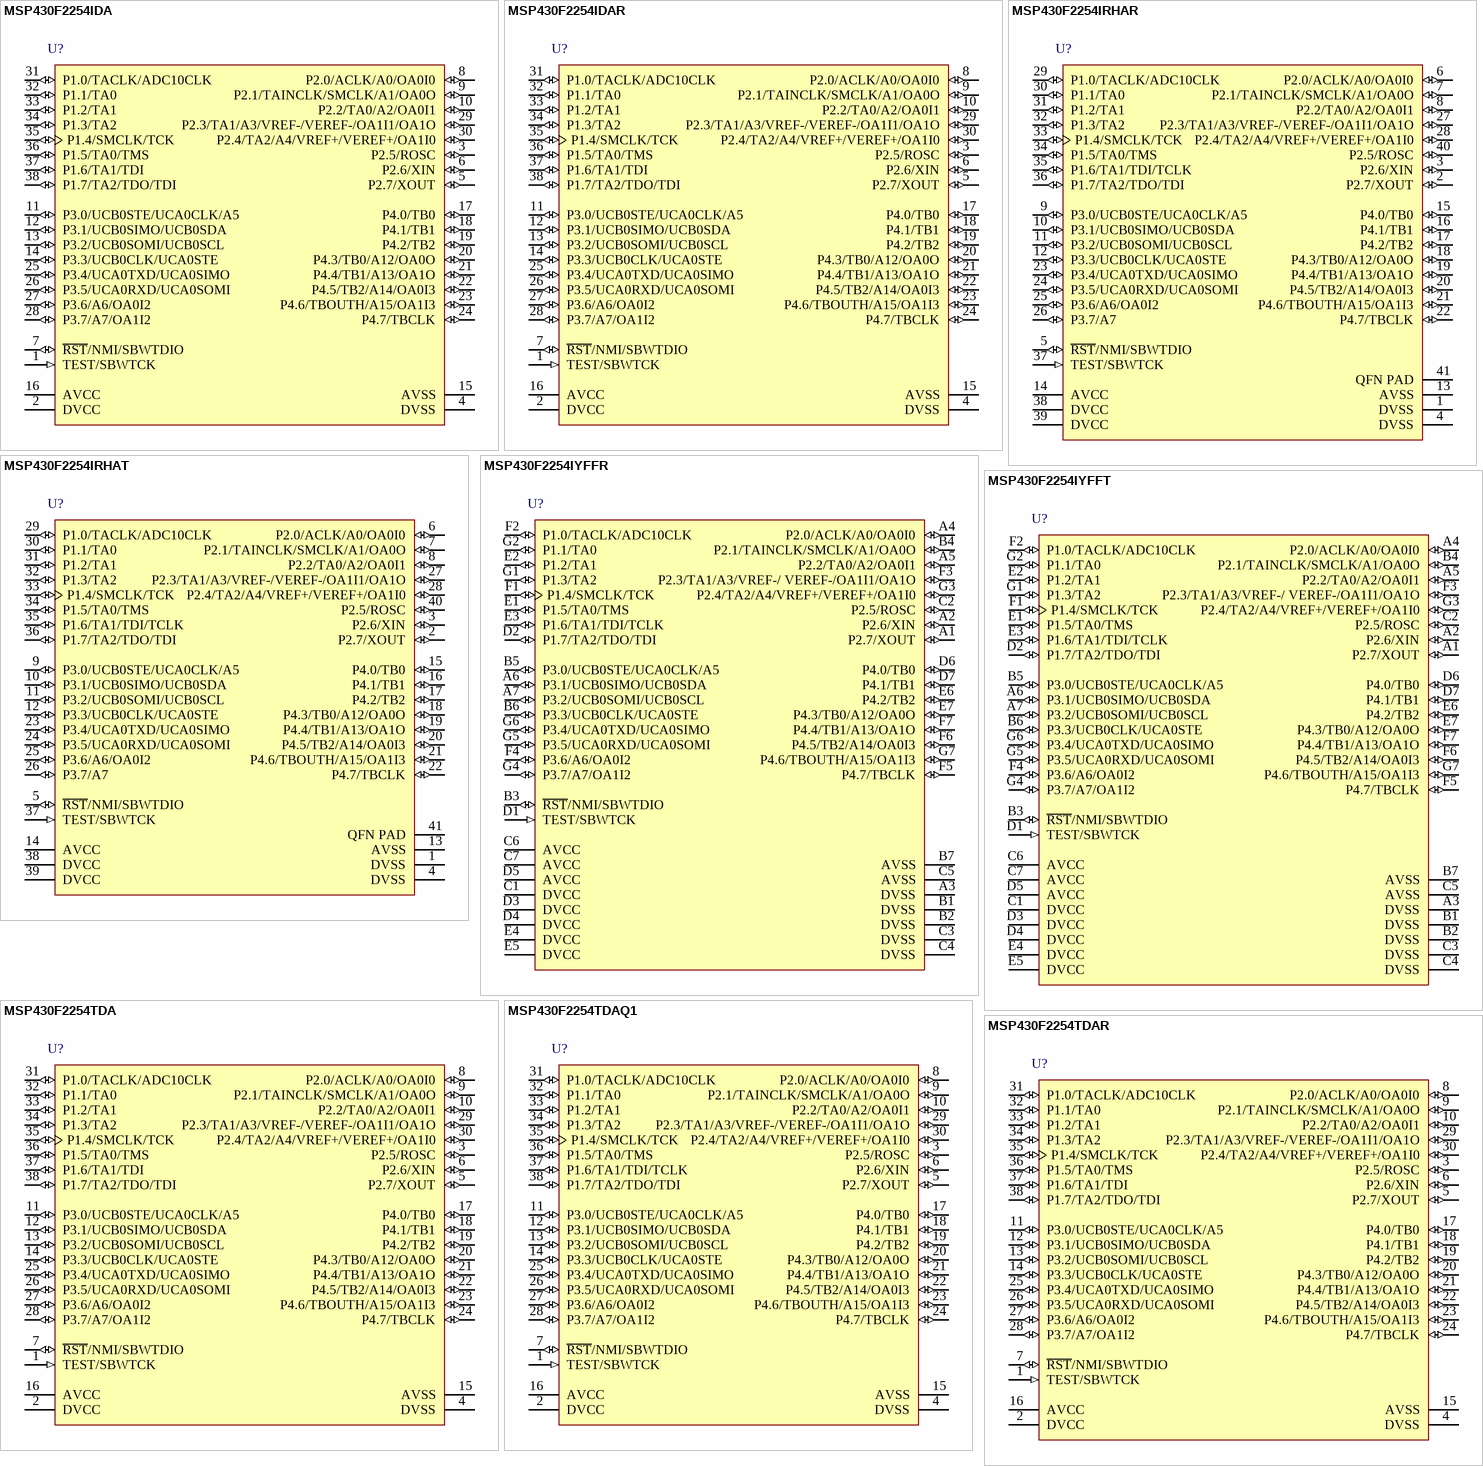
[diagram p63: symbols MSP430F2254IDA to MSP430F2254TDAR]

## MSP430F2254IDA
designator U?
16 MHz Mixed Signal Microcontroller with 16 KB Flash, 512 B SRAM and 32 GPIOs, -40 to 85 degC, 38-pin SOP (DA), Green (RoHS & no Sb/Br); Manufacturer: Texas Instruments; PartNumber: MSP430F2254IDA; ADC: 10-bit SAR; ADC Channels: 12; Brown Out Reset: Yes; Flash(KB): 16; GPIO: 32; SRAM(B): 512; SubFamily: 2 Series, Extended Temp; Timers - 16-bit: 2; USCI_A (UART/LIN/IrDA/SPI): 1; DatasheetVersion: SLAS504G; PackageVersion: 4040066/F; PackageReference: DA38; PackageDescription: 38-Pin Plastic Small-Outline Package, Body 6.10 x 12.50 mm, Pitch 0.65 mm; Supplier 1: Mouser; Supplier Part Number 1: N/A; Eco-Plan: Green (RoHS & no Sb/Br); Frequency(MHz): 16; USCI_B (I2C & SPI): 1; Watchdog: Yes; Mounting Technology: Surface Mount; Code_JEDEC: MO-153; ComponentLink1Description: Manufacturer URL; ComponentLink1URL: http://www.ti.com/; ComponentLink2Description: Datasheet; ComponentLink2URL: http://www.ti.com/general/docs/lit/getliterature.tsp?genericPartNumber=MSP430F2254&fileType=pdf; ComponentLink3Description: Package Specification; ComponentLink3URL: http://www.ti.com/lit/ml/mtss002e/mtss002e.pdf
footprint TI-DA38_N (SOP, 38-Leads, Body 12.5x6.1mm, Pitch 0.65mm, IPC Medium Density)
pins: 1 TEST/SBWTCK (in), 2 DVCC (power) "Digital supply voltage", 3 P2.5/ROSC (io), 4 DVSS (power) "Digital ground reference", 5 P2.7/XOUT (io), 6 P2.6/XIN (io), 7 ~{RST}/NMI/SBWTDIO (io), 8 P2.0/ACLK/A0/OA0I0 (io), 9 P2.1/TAINCLK/SMCLK/A1/OA0O (io), 10 P2.2/TA0/A2/OA0I1 (io), 11 P3.0/UCB0STE/UCA0CLK/A5 (io), 12 P3.1/UCB0SIMO/UCB0SDA (io), 13 P3.2/UCB0SOMI/UCB0SCL (io), 14 P3.3/UCB0CLK/UCA0STE (io), 15 AVSS (power) "Analog ground reference", 16 AVCC (power) "Analog supply voltage", 17 P4.0/TB0 (io), 18 P4.1/TB1 (io), 19 P4.2/TB2 (io), 20 P4.3/TB0/A12/OA0O (io), 21 P4.4/TB1/A13/OA1O (io), 22 P4.5/TB2/A14/OA0I3 (io), 23 P4.6/TBOUTH/A15/OA1I3 (io), 24 P4.7/TBCLK (io), 25 P3.4/UCA0TXD/UCA0SIMO (io), 26 P3.5/UCA0RXD/UCA0SOMI (io), 27 P3.6/A6/OA0I2 (io), 28 P3.7/A7/OA1I2 (io), 29 P2.3/TA1/A3/VREF-/VEREF-/OA1I1/OA1O (io), 30 P2.4/TA2/A4/VREF+/VEREF+/OA1I0 (io), 31 P1.0/TACLK/ADC10CLK (io), 32 P1.1/TA0 (io), 33 P1.2/TA1 (io), 34 P1.3/TA2 (io), 35 P1.4/SMCLK/TCK (io), 36 P1.5/TA0/TMS (io), 37 P1.6/TA1/TDI (io), 38 P1.7/TA2/TDO/TDI (io)

## MSP430F2254IDAR
designator U?
16 MHz Mixed Signal Microcontroller with 16 KB Flash, 512 B SRAM and 32 GPIOs, -40 to 85 degC, 38-pin SOP (DA), Green (RoHS & no Sb/Br); Manufacturer: Texas Instruments; PartNumber: MSP430F2254IDAR; ADC: 10-bit SAR; ADC Channels: 12; Brown Out Reset: Yes; Flash(KB): 16; GPIO: 32; SRAM(B): 512; SubFamily: 2 Series; Timers - 16-bit: 2; USCI_A (UART/LIN/IrDA/SPI): 1; DatasheetVersion: SLAS504G; PackageVersion: 4040066/F; PackageReference: DA38; PackageDescription: 38-Pin Plastic Small-Outline Package, Body 6.10 x 12.50 mm, Pitch 0.65 mm; Supplier 1: Digi-Key; Supplier Part Number 1: 296-21452-2-ND; Supplier 2: Digi-Key; Supplier Part Number 2: 296-21452-1-ND; Supplier 3: Digi-Key; Supplier Part Number 3: 296-21452-6-ND; Supplier 4: Newark; Supplier Part Number 4: 28M6335; Supplier 5: Mouser; Supplier Part Number 5: 595-MSP430F2254IDAR; Eco-Plan: Green (RoHS & no Sb/Br); Frequency(MHz): 16; USCI_B (I2C & SPI): 1; Watchdog: Yes; Mounting Technology: Surface Mount; Code_JEDEC: MO-153; ComponentLink1Description: Manufacturer URL; ComponentLink1URL: http://www.ti.com/; ComponentLink2Description: Datasheet; ComponentLink2URL: http://www.ti.com/general/docs/lit/getliterature.tsp?genericPartNumber=MSP430F2254&fileType=pdf; ComponentLink3Description: Package Specification; ComponentLink3URL: http://www.ti.com/lit/ml/mtss002e/mtss002e.pdf
footprint TI-DA38_N (SOP, 38-Leads, Body 12.5x6.1mm, Pitch 0.65mm, IPC Medium Density)
pins: 1 TEST/SBWTCK (in), 2 DVCC (power) "Digital supply voltage", 3 P2.5/ROSC (io), 4 DVSS (power) "Digital ground reference", 5 P2.7/XOUT (io), 6 P2.6/XIN (io), 7 ~{RST}/NMI/SBWTDIO (io), 8 P2.0/ACLK/A0/OA0I0 (io), 9 P2.1/TAINCLK/SMCLK/A1/OA0O (io), 10 P2.2/TA0/A2/OA0I1 (io), 11 P3.0/UCB0STE/UCA0CLK/A5 (io), 12 P3.1/UCB0SIMO/UCB0SDA (io), 13 P3.2/UCB0SOMI/UCB0SCL (io), 14 P3.3/UCB0CLK/UCA0STE (io), 15 AVSS (power) "Analog ground reference", 16 AVCC (power) "Analog supply voltage", 17 P4.0/TB0 (io), 18 P4.1/TB1 (io), 19 P4.2/TB2 (io), 20 P4.3/TB0/A12/OA0O (io), 21 P4.4/TB1/A13/OA1O (io), 22 P4.5/TB2/A14/OA0I3 (io), 23 P4.6/TBOUTH/A15/OA1I3 (io), 24 P4.7/TBCLK (io), 25 P3.4/UCA0TXD/UCA0SIMO (io), 26 P3.5/UCA0RXD/UCA0SOMI (io), 27 P3.6/A6/OA0I2 (io), 28 P3.7/A7/OA1I2 (io), 29 P2.3/TA1/A3/VREF-/VEREF-/OA1I1/OA1O (io), 30 P2.4/TA2/A4/VREF+/VEREF+/OA1I0 (io), 31 P1.0/TACLK/ADC10CLK (io), 32 P1.1/TA0 (io), 33 P1.2/TA1 (io), 34 P1.3/TA2 (io), 35 P1.4/SMCLK/TCK (io), 36 P1.5/TA0/TMS (io), 37 P1.6/TA1/TDI (io), 38 P1.7/TA2/TDO/TDI (io)

## MSP430F2254IRHAR
designator U?
16 MHz Mixed Signal Microcontroller with 16 KB Flash, 512 B SRAM and 32 GPIOs, -40 to 85 degC, 40-pin QFN (RHA), Green (RoHS & no Sb/Br); Manufacturer: Texas Instruments; PartNumber: MSP430F2254IRHAR; ADC: 10-bit SAR; ADC Channels: 12; Brown Out Reset: Yes; Flash(KB): 16; GPIO: 32; SRAM(B): 512; SubFamily: 2 Series; Timers - 16-bit: 2; USCI_A (UART/LIN/IrDA/SPI): 1; DatasheetVersion: SLAS504G; PackageVersion: 4204276/E; PackageReference: RHA40-4150X4150TP; PackageDescription: 40-Pin Plastic Flat Pack, Body 6 x 6 mm, Pitch 0.5 mm; Supplier 1: Digi-Key; Supplier Part Number 1: 296-31684-2-ND; Supplier 2: Digi-Key; Supplier Part Number 2: 296-31684-1-ND; Supplier 3: Digi-Key; Supplier Part Number 3: 296-31684-6-ND; Supplier 4: Farnell; Supplier Part Number 4: 1903429; Supplier 5: Mouser; Supplier Part Number 5: 595-MSP430F2254IRHAR; Eco-Plan: Green (RoHS & no Sb/Br); Frequency(MHz): 16; USCI_B (I2C & SPI): 1; Watchdog: Yes; Mounting Technology: Surface Mount; Code_JEDEC: MO-220; ComponentLink1Description: Manufacturer URL; ComponentLink1URL: http://www.ti.com/; ComponentLink2Description: Datasheet; ComponentLink2URL: http://www.ti.com/general/docs/lit/getliterature.tsp?genericPartNumber=MSP430F2254&fileType=pdf; ComponentLink3Description: Package Specification; ComponentLink3URL: http://www.ti.com/litv/pdf/mpqf135c
footprint TI-RHA40-4150X4150TP_N (QFN, 40-Leads, Body 6x6mm, Pitch 0.5mm, Thermal Pad 4.15x4.15mm, IPC Medium Density)
pins: 1 DVSS (power) "Digital ground reference", 2 P2.7/XOUT (io), 3 P2.6/XIN (io), 4 DVSS (power) "Digital ground reference", 5 ~{RST}/NMI/SBWTDIO (io), 6 P2.0/ACLK/A0/OA0I0 (io), 7 P2.1/TAINCLK/SMCLK/A1/OA0O (io), 8 P2.2/TA0/A2/OA0I1 (io), 9 P3.0/UCB0STE/UCA0CLK/A5 (io), 10 P3.1/UCB0SIMO/UCB0SDA (io), 11 P3.2/UCB0SOMI/UCB0SCL (io), 12 P3.3/UCB0CLK/UCA0STE (io), 13 AVSS (power) "Analog ground reference", 14 AVCC (power) "Analog supply voltage", 15 P4.0/TB0 (io), 16 P4.1/TB1 (io), 17 P4.2/TB2 (io), 18 P4.3/TB0/A12/OA0O (io), 19 P4.4/TB1/A13/OA1O (io), 20 P4.5/TB2/A14/OA0I3 (io), 21 P4.6/TBOUTH/A15/OA1I3 (io), 22 P4.7/TBCLK (io), 23 P3.4/UCA0TXD/UCA0SIMO (io), 24 P3.5/UCA0RXD/UCA0SOMI (io), 25 P3.6/A6/OA0I2 (io), 26 P3.7/A7 (io), 27 P2.3/TA1/A3/VREF-/VEREF-/OA1I1/OA1O (io), 28 P2.4/TA2/A4/VREF+/VEREF+/OA1I0 (io), 29 P1.0/TACLK/ADC10CLK (io), 30 P1.1/TA0 (io), 31 P1.2/TA1 (io), 32 P1.3/TA2 (io), 33 P1.4/SMCLK/TCK (io), 34 P1.5/TA0/TMS (io), 35 P1.6/TA1/TDI/TCLK (io), 36 P1.7/TA2/TDO/TDI (io), 37 TEST/SBWTCK (in), 38 DVCC (power) "Digital supply voltage", 39 DVCC (power) "Digital supply voltage", 40 P2.5/ROSC (io), 41 QFN PAD (power) "QFN package pad; connection to DVSS recommended."

## MSP430F2254IRHAT
designator U?
16 MHz Mixed Signal Microcontroller with 16 KB Flash, 512 B SRAM and 32 GPIOs, -40 to 85 degC, 40-pin QFN (RHA), Green (RoHS & no Sb/Br); Manufacturer: Texas Instruments; PartNumber: MSP430F2254IRHAT; ADC: 10-bit SAR; ADC Channels: 12; Brown Out Reset: Yes; Flash(KB): 16; GPIO: 32; SRAM(B): 512; SubFamily: 2 Series; Timers - 16-bit: 2; USCI_A (UART/LIN/IrDA/SPI): 1; DatasheetVersion: SLAS504G; PackageVersion: 4204276/E; PackageReference: RHA40-4150X4150TP; PackageDescription: 40-Pin Plastic Flat Pack, Body 6 x 6 mm, Pitch 0.5 mm; Supplier 1: Digi-Key; Supplier Part Number 1: 296-21453-2-ND; Supplier 2: Digi-Key; Supplier Part Number 2: 296-21453-1-ND; Supplier 3: Digi-Key; Supplier Part Number 3: 296-21453-6-ND; Supplier 4: Farnell; Supplier Part Number 4: 1649423; Supplier 5: Farnell; Supplier Part Number 5: 1503306; Supplier 6: Newark; Supplier Part Number 6: 28M6337; Supplier 7: Newark; Supplier Part Number 7: 15P0272; Supplier 8: Mouser; Supplier Part Number 8: 595-MSP430F2254IRHAT; Eco-Plan: Green (RoHS & no Sb/Br); Frequency(MHz): 16; USCI_B (I2C & SPI): 1; Watchdog: Yes; Mounting Technology: Surface Mount; Code_JEDEC: MO-220; ComponentLink1Description: Manufacturer URL; ComponentLink1URL: http://www.ti.com/; ComponentLink2Description: Datasheet; ComponentLink2URL: http://www.ti.com/general/docs/lit/getliterature.tsp?genericPartNumber=MSP430F2254&fileType=pdf; ComponentLink3Description: Package Specification; ComponentLink3URL: http://www.ti.com/litv/pdf/mpqf135c
footprint TI-RHA40-4150X4150TP_N (QFN, 40-Leads, Body 6x6mm, Pitch 0.5mm, Thermal Pad 4.15x4.15mm, IPC Medium Density)
pins: 1 DVSS (power) "Digital ground reference", 2 P2.7/XOUT (io), 3 P2.6/XIN (io), 4 DVSS (power) "Digital ground reference", 5 ~{RST}/NMI/SBWTDIO (io), 6 P2.0/ACLK/A0/OA0I0 (io), 7 P2.1/TAINCLK/SMCLK/A1/OA0O (io), 8 P2.2/TA0/A2/OA0I1 (io), 9 P3.0/UCB0STE/UCA0CLK/A5 (io), 10 P3.1/UCB0SIMO/UCB0SDA (io), 11 P3.2/UCB0SOMI/UCB0SCL (io), 12 P3.3/UCB0CLK/UCA0STE (io), 13 AVSS (power) "Analog ground reference", 14 AVCC (power) "Analog supply voltage", 15 P4.0/TB0 (io), 16 P4.1/TB1 (io), 17 P4.2/TB2 (io), 18 P4.3/TB0/A12/OA0O (io), 19 P4.4/TB1/A13/OA1O (io), 20 P4.5/TB2/A14/OA0I3 (io), 21 P4.6/TBOUTH/A15/OA1I3 (io), 22 P4.7/TBCLK (io), 23 P3.4/UCA0TXD/UCA0SIMO (io), 24 P3.5/UCA0RXD/UCA0SOMI (io), 25 P3.6/A6/OA0I2 (io), 26 P3.7/A7 (io), 27 P2.3/TA1/A3/VREF-/VEREF-/OA1I1/OA1O (io), 28 P2.4/TA2/A4/VREF+/VEREF+/OA1I0 (io), 29 P1.0/TACLK/ADC10CLK (io), 30 P1.1/TA0 (io), 31 P1.2/TA1 (io), 32 P1.3/TA2 (io), 33 P1.4/SMCLK/TCK (io), 34 P1.5/TA0/TMS (io), 35 P1.6/TA1/TDI/TCLK (io), 36 P1.7/TA2/TDO/TDI (io), 37 TEST/SBWTCK (in), 38 DVCC (power) "Digital supply voltage", 39 DVCC (power) "Digital supply voltage", 40 P2.5/ROSC (io), 41 QFN PAD (power) "QFN package pad; connection to DVSS recommended."

## MSP430F2254IYFFR
designator U?
16 MHz Mixed Signal Microcontroller with 16 KB Flash, 512 B SRAM and 32 GPIOs, -40 to 85 degC, 49-pin BGA (TFF), Green (RoHS & no Sb/Br); Manufacturer: Texas Instruments; PartNumber: MSP430F2254IYFFR; ADC: 10-bit SAR; ADC Channels: 12; Brown Out Reset: Yes; Flash(KB): 16; GPIO: 32; SRAM(B): 512; SubFamily: 2 Series; Timers - 16-bit: 2; USCI_A (UART/LIN/IrDA/SPI): 1; DatasheetVersion: SLAS504G; PackageVersion: 4207625-16/AJ; PackageReference: YFF49; PackageDescription: 49-Ball Silicon Grid Array, Body 3.33 x 3.49 mm, Pitch 0.4 mm; Supplier 1: Digi-Key; Supplier Part Number 1: 296-28982-2-ND; Supplier 2: Digi-Key; Supplier Part Number 2: 296-28982-1-ND; Supplier 3: Digi-Key; Supplier Part Number 3: 296-28982-6-ND; Supplier 4: Newark; Supplier Part Number 4: 47W6740; Supplier 5: Mouser; Supplier Part Number 5: 595-MSP430F2254IYFFR; Eco-Plan: Green (RoHS & no Sb/Br); Frequency(MHz): 16; USCI_B (I2C & SPI): 1; Watchdog: Yes; Mounting Technology: Surface Mount; ComponentLink1Description: Manufacturer URL; ComponentLink1URL: http://www.ti.com/; ComponentLink2Description: Datasheet; ComponentLink2URL: http://www.ti.com/general/docs/lit/getliterature.tsp?genericPartNumber=MSP430F2254&fileType=pdf; ComponentLink3Description: Package Specification; ComponentLink3URL: http://www.ti.com/lit/ds/symlink/msp430f2232.pdf
footprint TI-YFF49-3330X3490DE (BGA, 49-Balls, Body 3.49x3.33mm, Pitch 0.4mm)
pins: A1 P2.7/XOUT (io), A2 P2.6/XIN (io), A3 DVSS (power) "Digital ground reference", A4 P2.0/ACLK/A0/OA0I0 (io), A5 P2.2/TA0/A2/OA0I1 (io), A6 P3.1/UCB0SIMO/UCB0SDA (io), A7 P3.2/UCB0SOMI/UCB0SCL (io), B1 DVSS (power) "Digital ground reference", B2 DVSS (power) "Digital ground reference", B3 ~{RST}/NMI/SBWTDIO (io), B4 P2.1/TAINCLK/SMCLK/A1/OA0O (io), B5 P3.0/UCB0STE/UCA0CLK/A5 (io), B6 P3.3/UCB0CLK/UCA0STE (io), B7 AVSS (power) "Analog ground reference", C1 DVCC (power) "Digital supply voltage", C2 P2.5/ROSC (io), C3 DVSS (power) "Digital ground reference", C4 DVSS (power) "Digital ground reference", C5 AVSS (power) "Analog ground reference", C6 AVCC (power) "Analog supply voltage", C7 AVCC (power) "Analog supply voltage", D1 TEST/SBWTCK (in), D2 P1.7/TA2/TDO/TDI (io), D3 DVCC (power) "Digital supply voltage", D4 DVCC (power) "Digital supply voltage", D5 AVCC (power) "Analog supply voltage", D6 P4.0/TB0 (io), D7 P4.1/TB1 (io), E1 P1.5/TA0/TMS (io), E2 P1.2/TA1 (io), E3 P1.6/TA1/TDI/TCLK (io), E4 DVCC (power) "Digital supply voltage", E5 DVCC (power) "Digital supply voltage", E6 P4.2/TB2 (io), E7 P4.3/TB0/A12/OA0O (io), F1 P1.4/SMCLK/TCK (io), F2 P1.0/TACLK/ADC10CLK (io), F3 P2.3/TA1/A3/VREF-/ VEREF-/OA1I1/OA1O (io), F4 P3.6/A6/OA0I2 (io), F5 P4.7/TBCLK (io), F6 P4.5/TB2/A14/OA0I3 (io), F7 P4.4/TB1/A13/OA1O (io), G1 P1.3/TA2 (io), G2 P1.1/TA0 (io), G3 P2.4/TA2/A4/VREF+/VEREF+/OA1I0 (io), G4 P3.7/A7/OA1I2 (io), G5 P3.5/UCA0RXD/UCA0SOMI (io), G6 P3.4/UCA0TXD/UCA0SIMO (io), G7 P4.6/TBOUTH/A15/OA1I3 (io)

## MSP430F2254IYFFT
designator U?
16 MHz Mixed Signal Microcontroller with 16 KB Flash, 512 B SRAM and 32 GPIOs, -40 to 85 degC, 49-pin BGA (TFF), Green (RoHS & no Sb/Br); Manufacturer: Texas Instruments; PartNumber: MSP430F2254IYFFT; ADC: 10-bit SAR; ADC Channels: 12; Brown Out Reset: Yes; Flash(KB): 16; GPIO: 32; SRAM(B): 512; SubFamily: 2 Series; Timers - 16-bit: 2; USCI_A (UART/LIN/IrDA/SPI): 1; DatasheetVersion: SLAS504G; PackageVersion: 4207625-16/AJ; PackageReference: YFF49; PackageDescription: 49-Ball Silicon Grid Array, Body 3.33 x 3.49 mm, Pitch 0.4 mm; Supplier 1: Newark; Supplier Part Number 1: 47W6741; Supplier 2: Mouser; Supplier Part Number 2: 595-MSP430F2254IYFFT; Eco-Plan: Green (RoHS & no Sb/Br); Frequency(MHz): 16; USCI_B (I2C & SPI): 1; Watchdog: Yes; Mounting Technology: Surface Mount; ComponentLink1Description: Manufacturer URL; ComponentLink1URL: http://www.ti.com/; ComponentLink2Description: Datasheet; ComponentLink2URL: http://www.ti.com/general/docs/lit/getliterature.tsp?genericPartNumber=MSP430F2254&fileType=pdf; ComponentLink3Description: Package Specification; ComponentLink3URL: http://www.ti.com/lit/ds/symlink/msp430f2232.pdf
footprint TI-YFF49-3330X3490DE (BGA, 49-Balls, Body 3.49x3.33mm, Pitch 0.4mm)
pins: A1 P2.7/XOUT (io), A2 P2.6/XIN (io), A3 DVSS (power) "Digital ground reference", A4 P2.0/ACLK/A0/OA0I0 (io), A5 P2.2/TA0/A2/OA0I1 (io), A6 P3.1/UCB0SIMO/UCB0SDA (io), A7 P3.2/UCB0SOMI/UCB0SCL (io), B1 DVSS (power) "Digital ground reference", B2 DVSS (power) "Digital ground reference", B3 ~{RST}/NMI/SBWTDIO (io), B4 P2.1/TAINCLK/SMCLK/A1/OA0O (io), B5 P3.0/UCB0STE/UCA0CLK/A5 (io), B6 P3.3/UCB0CLK/UCA0STE (io), B7 AVSS (power) "Analog ground reference", C1 DVCC (power) "Digital supply voltage", C2 P2.5/ROSC (io), C3 DVSS (power) "Digital ground reference", C4 DVSS (power) "Digital ground reference", C5 AVSS (power) "Analog ground reference", C6 AVCC (power) "Analog supply voltage", C7 AVCC (power) "Analog supply voltage", D1 TEST/SBWTCK (in), D2 P1.7/TA2/TDO/TDI (io), D3 DVCC (power) "Digital supply voltage", D4 DVCC (power) "Digital supply voltage", D5 AVCC (power) "Analog supply voltage", D6 P4.0/TB0 (io), D7 P4.1/TB1 (io), E1 P1.5/TA0/TMS (io), E2 P1.2/TA1 (io), E3 P1.6/TA1/TDI/TCLK (io), E4 DVCC (power) "Digital supply voltage", E5 DVCC (power) "Digital supply voltage", E6 P4.2/TB2 (io), E7 P4.3/TB0/A12/OA0O (io), F1 P1.4/SMCLK/TCK (io), F2 P1.0/TACLK/ADC10CLK (io), F3 P2.3/TA1/A3/VREF-/ VEREF-/OA1I1/OA1O (io), F4 P3.6/A6/OA0I2 (io), F5 P4.7/TBCLK (io), F6 P4.5/TB2/A14/OA0I3 (io), F7 P4.4/TB1/A13/OA1O (io), G1 P1.3/TA2 (io), G2 P1.1/TA0 (io), G3 P2.4/TA2/A4/VREF+/VEREF+/OA1I0 (io), G4 P3.7/A7/OA1I2 (io), G5 P3.5/UCA0RXD/UCA0SOMI (io), G6 P3.4/UCA0TXD/UCA0SIMO (io), G7 P4.6/TBOUTH/A15/OA1I3 (io)

## MSP430F2254TDA
designator U?
16 MHz Mixed Signal Microcontroller with 16 KB Flash, 512 B SRAM and 32 GPIOs, -40 to 105 degC, 38-pin SOP (DA), Green (RoHS & no Sb/Br); Manufacturer: Texas Instruments; PartNumber: MSP430F2254TDA; ADC: 10-bit SAR; ADC Channels: 12; Brown Out Reset: Yes; Flash(KB): 16; GPIO: 32; SRAM(B): 512; SubFamily: 2 Series; Timers - 16-bit: 2; USCI_A (UART/LIN/IrDA/SPI): 1; DatasheetVersion: SLAS504G; PackageVersion: 4040066/F; PackageReference: DA38; PackageDescription: 38-Pin Plastic Small-Outline Package, Body 6.10 x 12.50 mm, Pitch 0.65 mm; Supplier 1: Digi-Key; Supplier Part Number 1: MSP430F2254TDA-ND; Supplier 2: Farnell; Supplier Part Number 2: 1753295; Supplier 3: Newark; Supplier Part Number 3: 28M6338; Supplier 4: Mouser; Supplier Part Number 4: 595-MSP430F2254TDA; Eco-Plan: Green (RoHS & no Sb/Br); Frequency(MHz): 16; USCI_B (I2C & SPI): 1; Watchdog: Yes; Mounting Technology: Surface Mount; Code_JEDEC: MO-153; ComponentLink1Description: Manufacturer URL; ComponentLink1URL: http://www.ti.com/; ComponentLink2Description: Datasheet; ComponentLink2URL: http://www.ti.com/general/docs/lit/getliterature.tsp?genericPartNumber=MSP430F2254&fileType=pdf; ComponentLink3Description: Package Specification; ComponentLink3URL: http://www.ti.com/lit/ml/mtss002e/mtss002e.pdf
footprint TI-DA38_N (SOP, 38-Leads, Body 12.5x6.1mm, Pitch 0.65mm, IPC Medium Density)
pins: 1 TEST/SBWTCK (in), 2 DVCC (power) "Digital supply voltage", 3 P2.5/ROSC (io), 4 DVSS (power) "Digital ground reference", 5 P2.7/XOUT (io), 6 P2.6/XIN (io), 7 ~{RST}/NMI/SBWTDIO (io), 8 P2.0/ACLK/A0/OA0I0 (io), 9 P2.1/TAINCLK/SMCLK/A1/OA0O (io), 10 P2.2/TA0/A2/OA0I1 (io), 11 P3.0/UCB0STE/UCA0CLK/A5 (io), 12 P3.1/UCB0SIMO/UCB0SDA (io), 13 P3.2/UCB0SOMI/UCB0SCL (io), 14 P3.3/UCB0CLK/UCA0STE (io), 15 AVSS (power) "Analog ground reference", 16 AVCC (power) "Analog supply voltage", 17 P4.0/TB0 (io), 18 P4.1/TB1 (io), 19 P4.2/TB2 (io), 20 P4.3/TB0/A12/OA0O (io), 21 P4.4/TB1/A13/OA1O (io), 22 P4.5/TB2/A14/OA0I3 (io), 23 P4.6/TBOUTH/A15/OA1I3 (io), 24 P4.7/TBCLK (io), 25 P3.4/UCA0TXD/UCA0SIMO (io), 26 P3.5/UCA0RXD/UCA0SOMI (io), 27 P3.6/A6/OA0I2 (io), 28 P3.7/A7/OA1I2 (io), 29 P2.3/TA1/A3/VREF-/VEREF-/OA1I1/OA1O (io), 30 P2.4/TA2/A4/VREF+/VEREF+/OA1I0 (io), 31 P1.0/TACLK/ADC10CLK (io), 32 P1.1/TA0 (io), 33 P1.2/TA1 (io), 34 P1.3/TA2 (io), 35 P1.4/SMCLK/TCK (io), 36 P1.5/TA0/TMS (io), 37 P1.6/TA1/TDI (io), 38 P1.7/TA2/TDO/TDI (io)

## MSP430F2254TDAQ1
designator U?
16 MHz Mixed Signal Microcontroller with 16 KB Flash, 512 B SRAM and 32 GPIOs, -40 to 105 degC, 38-pin SOP (DA); Manufacturer: Texas Instruments; PartNumber: MSP430F2254TDAQ1; ADC: 10-bit SAR; ADC Channels: 12; Brown Out Reset: Yes; Eco-Plan: TBD; Flash(KB): 16; GPIO: 32; SRAM(B): 512; SubFamily: Automotive; Timers - 16-bit: 2; USCI_A (UART/LIN/IrDA/SPI): 1; USI: (I2C/SPI); DatasheetVersion: SLAS770; PackageVersion: 4040066/F; PackageReference: DA38; PackageDescription: 38-Pin Plastic Small-Outline Package, Body 6.10 x 12.50 mm, Pitch 0.65 mm; Supplier 1: Mouser; Supplier Part Number 1: N/A; Frequency(MHz): 16; Temp Sensor: Yes; USCI_B (I2C & SPI): 1; Watchdog: Yes; Mounting Technology: Surface Mount; Code_JEDEC: MO-153; ComponentLink1Description: Manufacturer URL; ComponentLink1URL: http://www.ti.com/; ComponentLink2Description: Datasheet; ComponentLink2URL: http://www.ti.com/general/docs/lit/getliterature.tsp?genericPartNumber=MSP430F2254-Q1&fileType=pdf; ComponentLink3Description: Package Specification; ComponentLink3URL: http://www.ti.com/lit/ml/mtss002e/mtss002e.pdf
footprint TI-DA38_N (SOP, 38-Leads, Body 12.5x6.1mm, Pitch 0.65mm, IPC Medium Density)
pins: 1 TEST/SBWTCK (in), 2 DVCC (power) "Digital supply voltage", 3 P2.5/ROSC (io), 4 DVSS (power) "Digital ground reference", 5 P2.7/XOUT (io), 6 P2.6/XIN (io), 7 ~{RST}/NMI/SBWTDIO (io), 8 P2.0/ACLK/A0/OA0I0 (io), 9 P2.1/TAINCLK/SMCLK/A1/OA0O (io), 10 P2.2/TA0/A2/OA0I1 (io), 11 P3.0/UCB0STE/UCA0CLK/A5 (io), 12 P3.1/UCB0SIMO/UCB0SDA (io), 13 P3.2/UCB0SOMI/UCB0SCL (io), 14 P3.3/UCB0CLK/UCA0STE (io), 15 AVSS (power) "Analog ground reference", 16 AVCC (power) "Analog supply voltage", 17 P4.0/TB0 (io), 18 P4.1/TB1 (io), 19 P4.2/TB2 (io), 20 P4.3/TB0/A12/OA0O (io), 21 P4.4/TB1/A13/OA1O (io), 22 P4.5/TB2/A14/OA0I3 (io), 23 P4.6/TBOUTH/A15/OA1I3 (io), 24 P4.7/TBCLK (io), 25 P3.4/UCA0TXD/UCA0SIMO (io), 26 P3.5/UCA0RXD/UCA0SOMI (io), 27 P3.6/A6/OA0I2 (io), 28 P3.7/A7/OA1I2 (io), 29 P2.3/TA1/A3/VREF-/VEREF-/OA1I1/OA1O (io), 30 P2.4/TA2/A4/VREF+/VEREF+/OA1I0 (io), 31 P1.0/TACLK/ADC10CLK (io), 32 P1.1/TA0 (io), 33 P1.2/TA1 (io), 34 P1.3/TA2 (io), 35 P1.4/SMCLK/TCK (io), 36 P1.5/TA0/TMS (io), 37 P1.6/TA1/TDI/TCLK (io), 38 P1.7/TA2/TDO/TDI (io)